# Altium schematic symbol library Inductors & Transformers.SchLib: 4 symbols
Pins are listed as number, name and electrical type; pins without a type are passive.

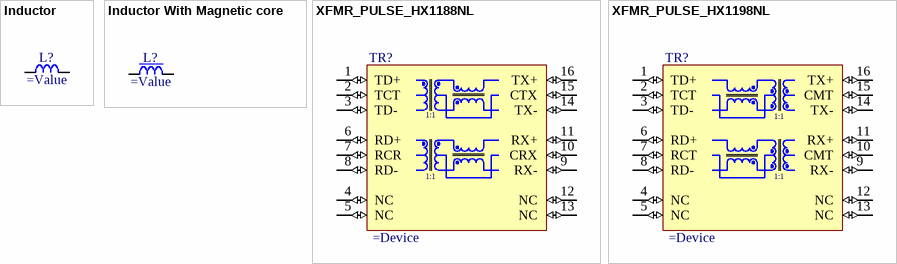
[diagram p0: symbols Inductor to XFMR_PULSE_HX1198NL]

## Inductor
designator L?
Inductor
pins: 1, 2

## Inductor With Magnetic core
designator L?
Inductor With Magnetic core
pins: 1, 2

## XFMR_PULSE_HX1188NL
designator TR?
10/100Base-T Single Port Surface Mount Magnetics
pins: 1 TD+ (io), 2 TCT (io), 3 TD- (io), 4 NC (io), 5 NC (io), 6 RD+ (io), 7 RCR (io), 8 RD- (io), 9 RX- (io), 10 CRX (io), 11 RX+ (io), 12 NC (io), 13 NC (io), 14 TX- (io), 15 CTX (io), 16 TX+ (io)
text: 1:1

## XFMR_PULSE_HX1198NL
designator TR?
10/100BASE-T Single Port LAN Transformer Module
pins: 1 TD+ (io), 2 TCT (io), 3 TD- (io), 4 NC (io), 5 NC (io), 6 RD+ (io), 7 RCT (io), 8 RD- (io), 9 RX- (io), 10 CMT (io), 11 RX+ (io), 12 NC (io), 13 NC (io), 14 TX- (io), 15 CMT (io), 16 TX+ (io)
text: 1:1